# Altium schematic symbol library PCP011512DBP.SchLib: 1 symbol
Pins are listed as number, name and electrical type; pins without a type are passive.

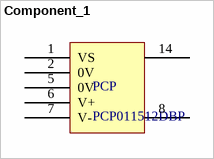
[diagram p0: symbol Component_1]

## Component_1
designator PCP, comment PCP011512DBP
pins: 1 VS, 2 0V, 5 0V, 6 V+, 7 V-, 8 6, 14